# Altium footprint library CR-2010.PcbLib: 1 footprints
Each footprint in its own frame and in the unit in brackets; x right, y up, seen from the top. Pads: shape width x height; smd on the part's side, far side on the other; paste and mask are expansions set on the pad; w line width, h text height; cw(c..) or ccw(c..) is an arc to the next point about the centre after c.
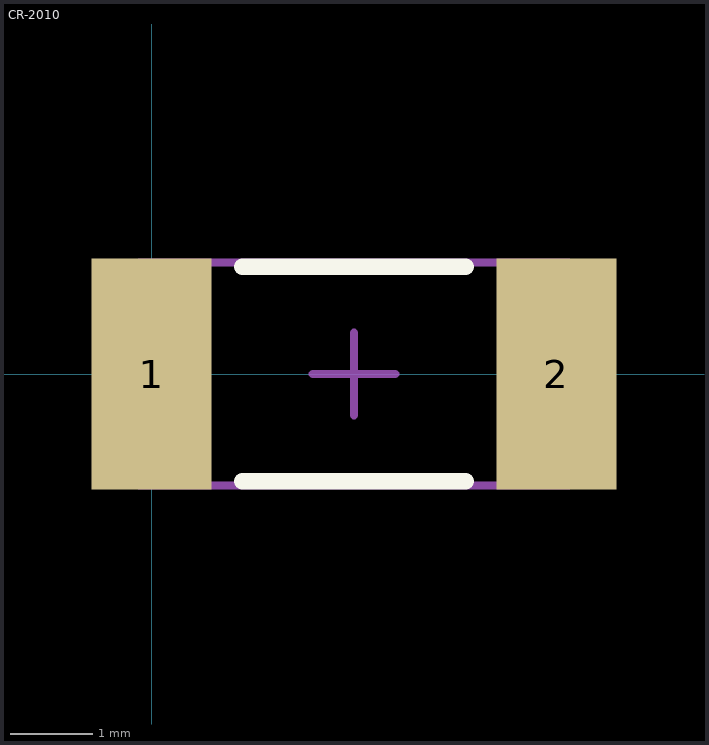
[diagram p0: the footprint, top view; thin cyan lines are the x and y axes]

## CR-2010 [mm]
height 0.6
pads (2):
  rect 1.45x2.8 smd: 1(0,0) 2(4.9,0)
Top Overlay:
  lines w0.2: 1.1,-1.3 3.8,-1.3 ; 1.1,1.3 3.8,1.3
Mechanical 13:
  lines w0.1: -0.15,-1.35 -0.15,1.35 5.05,1.35 5.05,-1.35 -0.15,-1.35
Mechanical 15:
  lines w0.1: 1.95,0 2.95,0 ; 2.45,-0.5 2.45,0.5
3D body "SMD RLC-2010.step": height 0.6, standoff 0, extent -0.025,-1.25 4.975,1.25